# Altium schematic symbol library advsensor.SchLib: 15 symbols
Pins are listed as number, name and electrical type; pins without a type are passive.

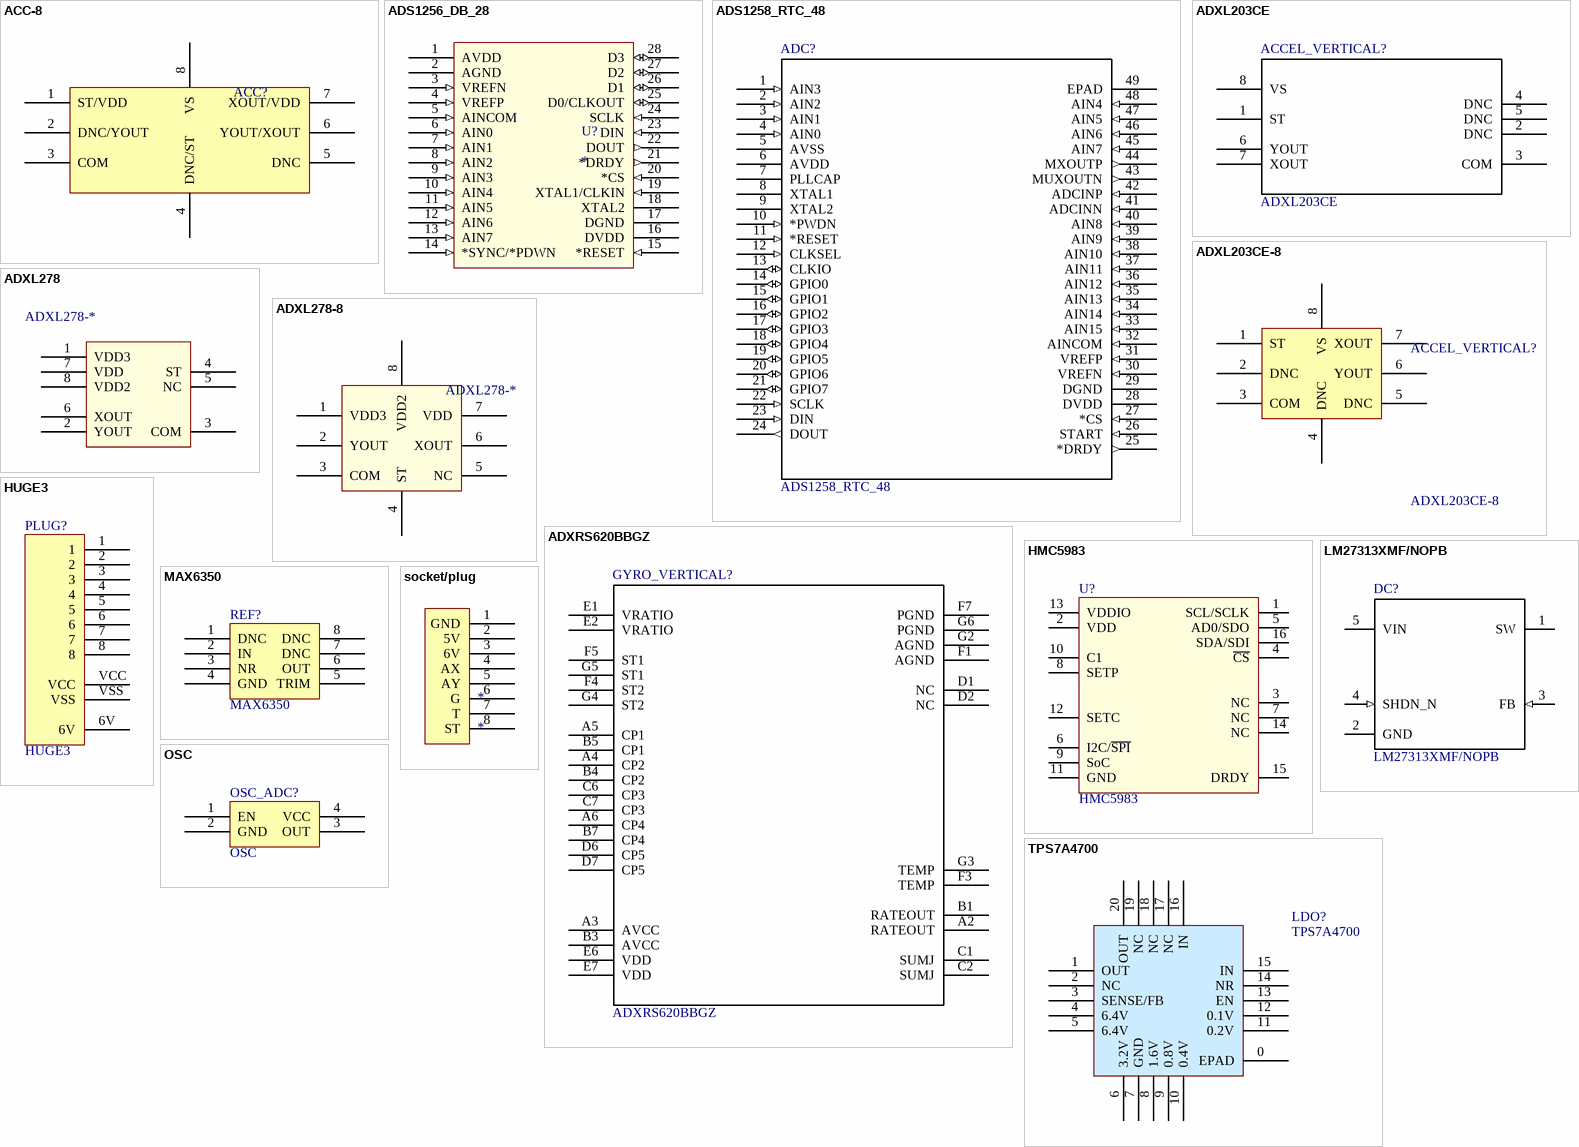
[diagram p0: symbols ACC-8 to TPS7A4700]

## ACC-8
designator ACC?  (value not drawn)
Imported; RefDes: RefDes; Type: DEV; Value: Value
footprint ADXL203
pins: 1 ST/VDD, 2 DNC/YOUT, 3 COM, 4 DNC/ST, 5 DNC, 6 YOUT/XOUT, 7 XOUT/VDD, 8 VS

## ADS1256_DB_28
designator U?
Imported; Manufacturer: Texas Instruments; GENERIC_PART_NUMBER: ADS1256; INDUSTRY_STD_PKG_TYPE: SSOP; FAMILY_NAME: PRECISION ADC (<=10MSPS); PIN_COUNT: 28; PACKAGE_DESIGNATOR: DB; Datasheet URL: http://www.ti.com/lit/gpn/ADS1256; RefDes: RefDes; Type: DEV; Value: Value
footprint DB28-L
pins: 1 AVDD (power), 2 AGND (power), 3 VREFN (in), 4 VREFP (in), 5 AINCOM (in), 6 AIN0 (in), 7 AIN1 (in), 8 AIN2 (in), 9 AIN3 (in), 10 AIN4 (in), 11 AIN5 (in), 12 AIN6 (in), 13 AIN7 (in), 14 *SYNC/*PDWN (in), 15 *RESET (in), 16 DVDD (power), 17 DGND (power), 18 XTAL2, 19 XTAL1/CLKIN (in), 20 *CS (in), 21 *DRDY (out), 22 DOUT (out), 23 DIN (in), 24 SCLK (in), 25 D0/CLKOUT (io), 26 D1 (io), 27 D2 (io), 28 D3 (io)

## ADS1258_RTC_48
designator ADC?
Imported; Manufacturer: Texas Instruments; INDUSTRY_STD_PKG_TYPE: VQFN; FAMILY_NAME: PRECISION ADC (<=10MSPS); PIN_COUNT: 48; PACKAGE_DESIGNATOR: RTC; Datasheet URL: http://www.ti.com/lit/gpn/ADS1258; GENERIC_PART_NUMBER: ADS1258; RefDes: RefDes; Type: DEV; Value: Value
footprint RTC48_5P1X5P1 - weak
pins: 1 AIN3 (in), 2 AIN2 (in), 3 AIN1 (in), 4 AIN0 (in), 5 AVSS (power), 6 AVDD (power), 7 PLLCAP, 8 XTAL1, 9 XTAL2, 10 *PWDN (in), 11 *RESET (in), 12 CLKSEL (in), 13 CLKIO (io), 14 GPIO0 (io), 15 GPIO1 (io), 16 GPIO2 (io), 17 GPIO3 (io), 18 GPIO4 (io), 19 GPIO5 (io), 20 GPIO6 (io), 21 GPIO7 (io), 22 SCLK (in), 23 DIN (in), 24 DOUT (out), 25 *DRDY (out), 26 START (in), 27 *CS (in), 28 DVDD (power), 29 DGND (power), 30 VREFN (in), 31 VREFP (in), 32 AINCOM (in), 33 AIN15 (in), 34 AIN14 (in), 35 AIN13 (in), 36 AIN12 (in), 37 AIN11 (in), 38 AIN10 (in), 39 AIN9 (in), 40 AIN8 (in), 41 ADCINN (in), 42 ADCINP (in), 43 MUXOUTN (out), 44 MXOUTP (out), 45 AIN7 (in), 46 AIN6 (in), 47 AIN5 (in), 48 AIN4 (in), 49 EPAD (power)

## ADXL203CE
designator ACCEL_VERTICAL?
Imported; RefDes: RefDes; Type: DEV; Value: Value
footprint ADXL203
pins: 1 ST, 2 DNC, 3 COM, 4 DNC, 5 DNC, 6 YOUT, 7 XOUT, 8 VS

## ADXL203CE-8
designator ACCEL_VERTICAL?
Imported; RefDes: RefDes; Type: DEV; Value: Value
footprint ADXL203
pins: 1 ST, 2 DNC, 3 COM, 4 DNC, 5 DNC, 6 YOUT, 7 XOUT, 8 VS

## ADXL278
designator ADXL278-*  (value not drawn)
Imported; RefDes: RefDes; Type: DEV; Value: Value
footprint ADXL203
pins: 1 VDD3, 2 YOUT, 3 COM, 4 ST, 5 NC, 6 XOUT, 7 VDD, 8 VDD2

## ADXL278-8
designator ADXL278-*  (value not drawn)
Imported; RefDes: RefDes; Type: DEV; Value: Value
footprint ADXL203
pins: 1 VDD3, 2 YOUT, 3 COM, 4 ST, 5 NC, 6 XOUT, 7 VDD, 8 VDD2

## ADXRS620BBGZ
designator GYRO_VERTICAL?
Imported; Manufacturer_Part_Number: ADXRS613BBGZ; Vendor: Vendor; RefDes: RefDes; Type: DEV; Value: Value
footprint BG_32_3
pins: A2 RATEOUT, A3 AVCC (power), A4 CP2, A5 CP1, A6 CP4, B1 RATEOUT, B3 AVCC (power), B4 CP2, B5 CP1, B7 CP4, C1 SUMJ, C2 SUMJ, C6 CP3, C7 CP3, D1 NC, D2 NC, D6 CP5, D7 CP5, E1 VRATIO (power), E2 VRATIO (power), E6 VDD (power), E7 VDD (power), F1 AGND, F3 TEMP, F4 ST2, F5 ST1, F7 PGND, G2 AGND, G3 TEMP, G4 ST2, G5 ST1, G6 PGND

## HMC5983
designator U?
HMC5983 LPCC-16 MEGA
footprint HMC5883-MAN
pins: 1 SCL/SCLK, 2 VDD, 3 NC, 4 ~{CS}, 5 AD0/SDO, 6 I2C/~{SPI}, 7 NC, 8 SETP, 9 SoC, 10 C1, 11 GND, 12 SETC, 13 VDDIO, 14 NC, 15 DRDY, 16 SDA/SDI

## HUGE3
designator PLUG?
footprint BIG
pins: 1, 2, 3, 4, 5, 6, 6V, 7, 8, VCC, VSS

## LM27313XMF/NOPB
designator DC?
Imported; Manufacturer: Texas Instruments; CompType: IC; PIN_COUNT: 5; PartNumber: LM27313XMF/NOPB; PackageReference: DBV0005A; MountType: SMT; RoHS: Y; RefDes: RefDes; Type: DEV; Value: Value
footprint DBV0005A
pins: 1 SW (power), 2 GND (power), 3 FB (in), 4 SHDN_N (in), 5 VIN (power)

## MAX6350
designator REF?
footprint D8
pins: 1 DNC, 2 IN, 3 NR, 4 GND, 5 TRIM, 6 OUT, 7 DNC, 8 DNC

## OSC
designator OSC_ADC?
footprint XTAL3225 - 4p
footprint SMD4_5X32
pins: 1 EN, 2 GND, 3 OUT, 4 VCC

## socket/plug
designator *
footprint SOCKET
footprint plug
pins: 1 GND, 2 5V, 3 6V, 4 AX, 5 AY, 6 G, 7 T, 8 ST

## TPS7A4700
designator LDO?
footprint TPS7A4700 - b
pins: 0 EPAD, 1 OUT, 2 NC, 3 SENSE/FB, 4 6.4V, 5 6.4V, 6 3.2V, 7 GND, 8 1.6V, 9 0.8V, 10 0.4V, 11 0.2V, 12 0.1V, 13 EN, 14 NR, 15 IN, 16 IN, 17 NC, 18 NC, 19 NC, 20 OUT